# Altium footprint library CONN PCI_EXP_FEMALE_64POS_0.039.PcbLib: 1 footprints
Each footprint in its own frame and in the unit in brackets; x right, y up, seen from the top. Pads: shape width x height; smd on the part's side, far side on the other; paste and mask are expansions set on the pad; w line width, h text height; cw(c..) or ccw(c..) is an arc to the next point about the centre after c.
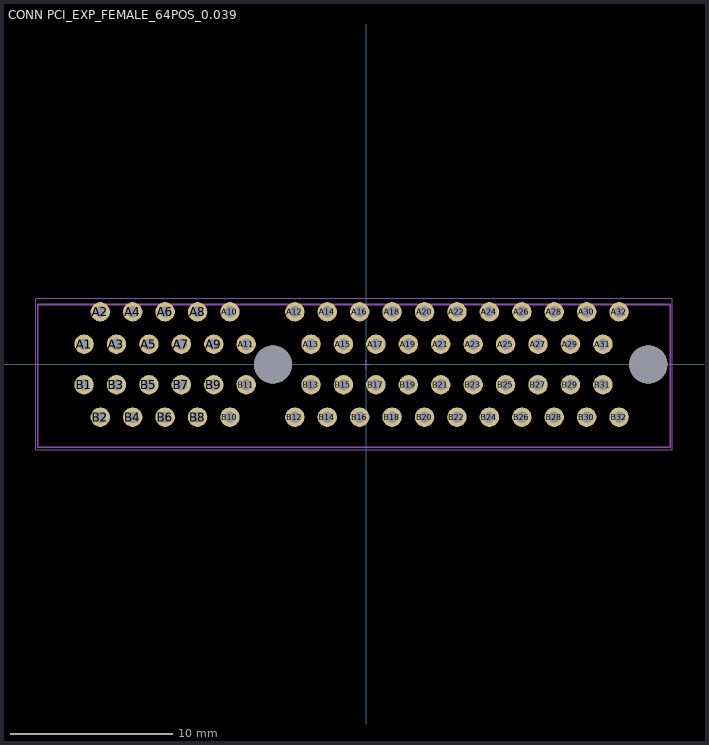
[diagram p0: the footprint, top view; thin cyan lines are the x and y axes]

## CONN PCI_EXP_FEMALE_64POS_0.039 [mm]
pads (66):
  round 1.2 hole 0.7: A1(-17.4,1.25) A2(-16.4,3.25) A3(-15.4,1.25) A4(-14.4,3.25) A5(-13.4,1.25) A6(-12.4,3.25) A7(-11.4,1.25) A8(-10.4,3.25) A9(-9.4,1.25) A10(-8.4,3.25) A11(-7.4,1.25) A12(-4.4,3.25) A13(-3.4,1.25) A14(-2.4,3.25) A15(-1.4,1.25) A16(-0.4,3.25) A17(0.6,1.25) A18(1.6,3.25) A19(2.6,1.25) A20(3.6,3.25) A21(4.6,1.25) A22(5.6,3.25) A23(6.6,1.25) A24(7.6,3.25) A25(8.6,1.25) A26(9.6,3.25) A27(10.6,1.25) A28(11.6,3.25) A29(12.6,1.25) A30(13.6,3.25) A31(14.6,1.25) A32(15.6,3.25) B1(-17.4,-1.25) B2(-16.4,-3.25) B3(-15.4,-1.25) B4(-14.4,-3.25) B5(-13.4,-1.25) B6(-12.4,-3.25) B7(-11.4,-1.25) B8(-10.4,-3.25) B9(-9.4,-1.25) B10(-8.4,-3.25) B11(-7.4,-1.25) B12(-4.4,-3.25) B13(-3.4,-1.25) B14(-2.4,-3.25) B15(-1.4,-1.25) B16(-0.4,-3.25) B17(0.6,-1.25) B18(1.6,-3.25) B19(2.6,-1.25) B20(3.6,-3.25) B21(4.6,-1.25) B22(5.6,-3.25) B23(6.6,-1.25) B24(7.6,-3.25) B25(8.6,-1.25) B26(9.6,-3.25) B27(10.6,-1.25) B28(11.6,-3.25) B29(12.6,-1.25) B30(13.6,-3.25) B31(14.6,-1.25) B32(15.6,-3.25)
  round 2.35 hole 2.35 unplated: ""(-5.75,0) ""(17.4,0)
Mechanical 1:
  lines w0.1: -20.25,-5.1 -20.25,3.7 18.75,3.7 18.75,-5.1 -20.25,-5.1
Mechanical 15:
  lines w0.05: -0.25,0 0.25,0 ; 0,-0.25 0,0.25 ; -20.375,-5.25 -20.375,4.075 18.875,4.075 18.875,-5.25 -20.375,-5.25
3D body "User Library-64p-c.step": height 11, standoff -4.4, extent -20.25,-5.1 18.75,3.7